# Altium footprint library Johanson Technology RF Baluns.PcbLib: 1 footprints
Each footprint in its own frame and in the unit in brackets; x right, y up, seen from the top. Pads: shape width x height; smd on the part's side, far side on the other; paste and mask are expansions set on the pad; w line width, h text height; cw(c..) or ccw(c..) is an arc to the next point about the centre after c.
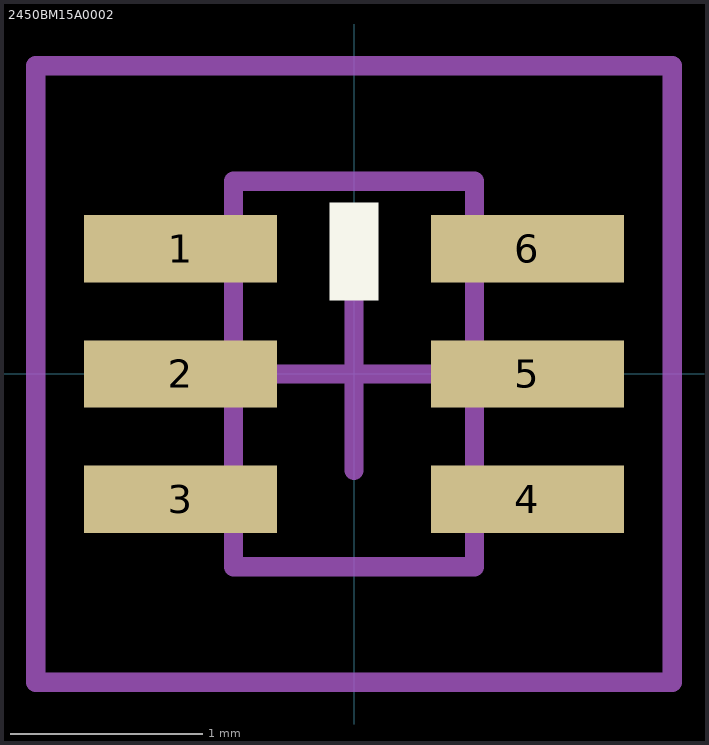
[diagram p0: the footprint, top view; thin cyan lines are the x and y axes]

## 2450BM15A0002 [mm] "Balun, 6-Leads, Body 2.0x1.25mm, Pitch 0.65mm"
height 0.8
pads (6):
  rect 1x0.35 smd: 1(-0.9,0.65) 2(-0.9,0) 3(-0.9,-0.65) 4(0.9,-0.65) 5(0.9,0) 6(0.9,0.65)
Top Overlay:
  rectangle: -0.127,0.381 0.127,0.889
Mechanical 13:
  lines w0.1: -0.625,-1 -0.625,1 0.625,1 0.625,-1 -0.625,-1
Mechanical 15:
  lines w0.1: -0.5,0 0.5,0 ; 0,-0.5 0,0.5 ; -1.651,-1.6 -1.651,1.6 1.651,1.6 1.651,-1.6 -1.651,-1.6
3D body: height 0.8, standoff 0.01, extent -0.625,-1 0.625,1